# Altium schematic symbol library SCH - POWER - MODULE - FlybakTrafo_WE750341793.SCHLIB: 1 symbol
Pins are listed as number, name and electrical type; pins without a type are passive.

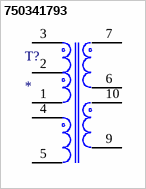
[diagram p0: symbol 750341793]

## 750341793
designator T?
Transformer; Manufacturer_Name: Wurth Elektronik; Manufacturer_Part_Number: 750341793; Description: Power Transformers MID-OLON Flyback Transformer; Datasheet Link: https://componentsearchengine.com/Datasheets/1/750341793.pdf; Height: 17.53mm; Mouser Part Number: 710-750341793; Mouser Price/Stock: https://www.mouser.co.uk/ProductDetail/Wurth-Elektronik/750341793?qs=qSfuJ%252Bfl%2Fd4lvbHb0ysZ0w%3D%3D
pins: 1 PRI_1, 2 PRI_2, 3 PRI_3, 4 AUX_1, 5 AUX_2, 6 SEC_1, 7 SEC_2, 9 SEC_3, 10 SEC_4